# Altium footprint library Ecohydro.PcbLib: 21 footprints (part 1 of 2)
Each footprint in its own frame and in the unit in brackets; x right, y up, seen from the top. Pads: shape width x height; smd on the part's side, far side on the other; paste and mask are expansions set on the pad; w line width, h text height; cw(c..) or ccw(c..) is an arc to the next point about the centre after c.
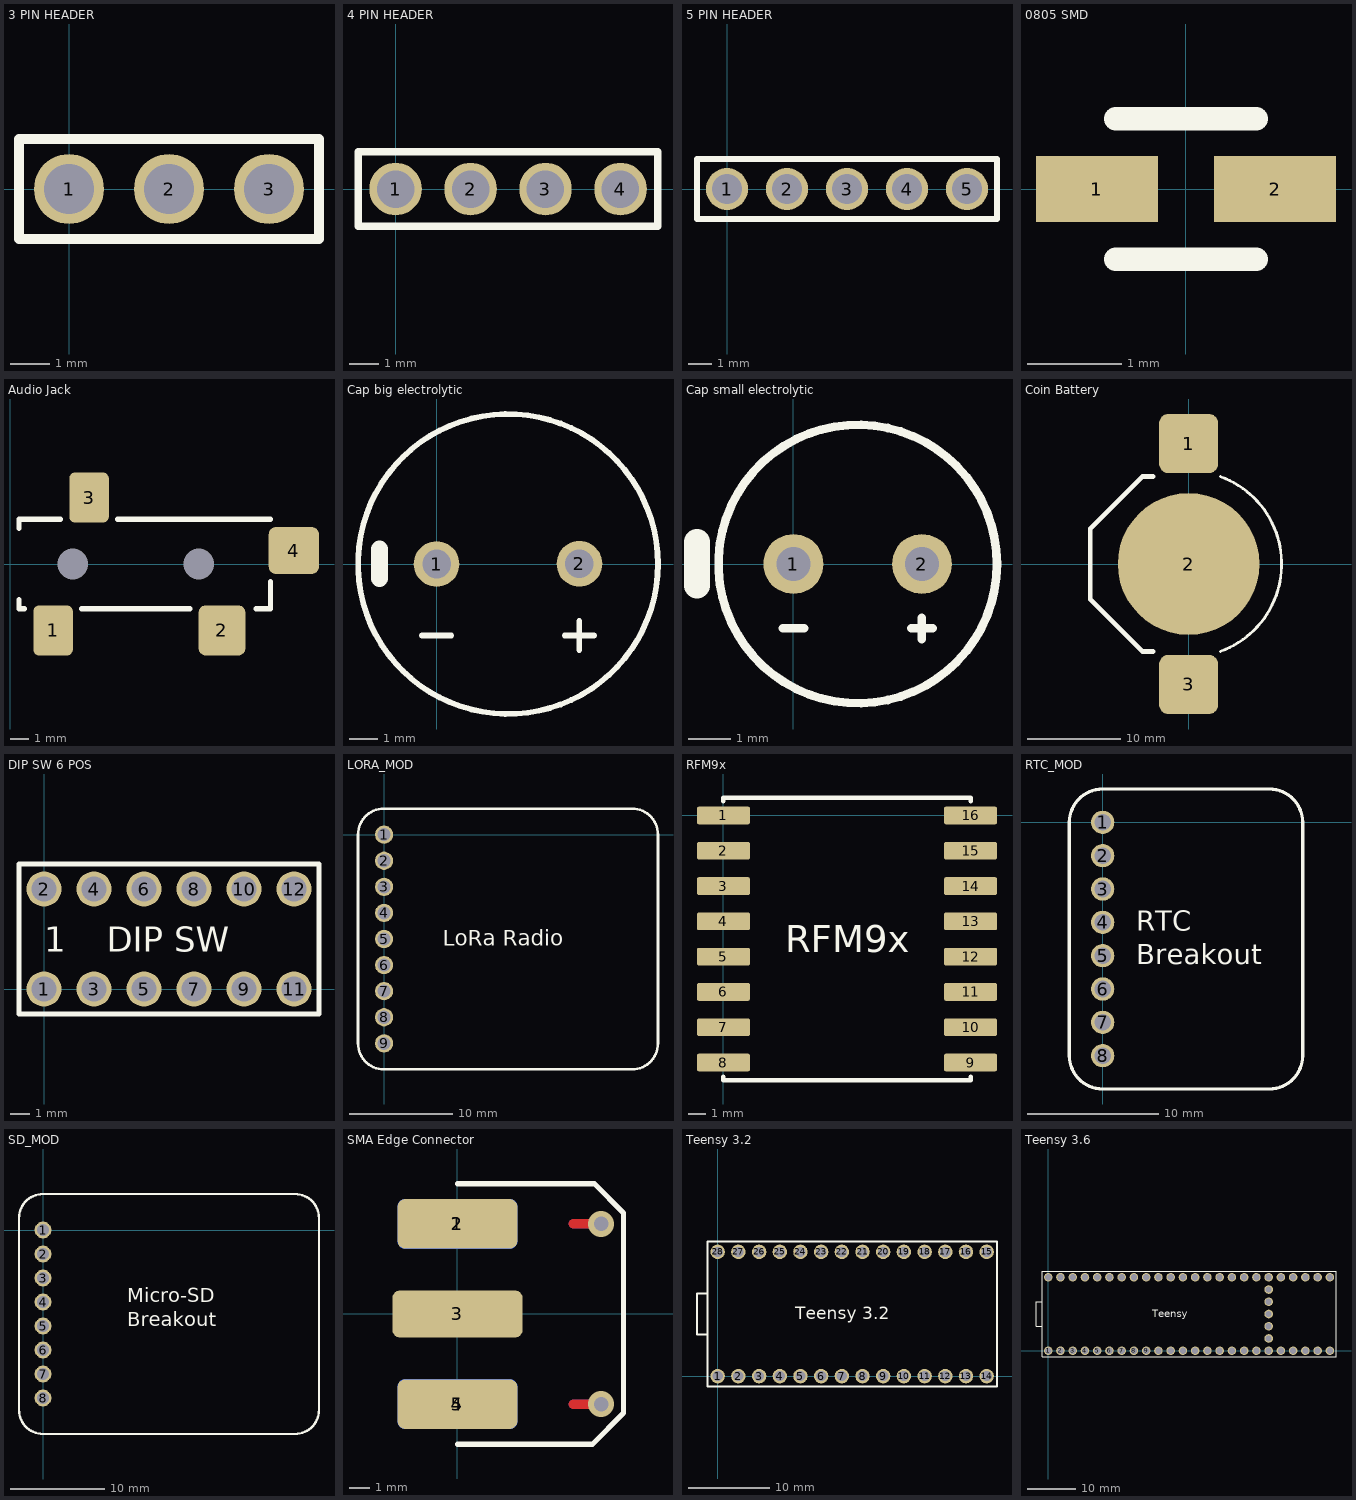
[diagram p0: the footprints below, top view; thin cyan lines are the x and y axes]

## 3 PIN HEADER [mil]
height 39.37
pads (3):
  round 70 hole 50: 1(0,0) 2(100,0) 3(200,0)
Top Overlay:
  lines w10: -50,-50 250,-50 250,50 -50,50 -50,-50

## 4 PIN HEADER [mil]
height 393.7
pads (4):
  round 70 hole 50: 1(0,0) 2(100,0) 3(200,0) 4(300,0)
Top Overlay:
  lines w10: -50,-50 -50,50 350,50 350,-50 -50,-50

## 5 PIN HEADER [mil]
height 393.7
pads (5):
  round 70 hole 50: 1(0,0) 2(100,0) 3(200,0) 4(300,0) 5(400,0)
Top Overlay:
  lines w10: -50,-50 -50,50 450,50 450,-50 -50,-50

## 0805 SMD [mm]
pads (2):
  rect 1.3x0.7 smd: 1(-0.95,0) 2(0.95,0)
Top Overlay:
  lines w0.254: -0.75,-0.75 0.75,-0.75 ; -0.75,0.75 0.75,0.75

## Audio Jack [mm]
height 5.08
pads (6):
  rrect30% 2.2x2.8 smd: 1(2.4,-3.7) 3(4.4,3.7)
  rrect30% 2.6x2.8 smd: 2(11.8,-3.7)
  rrect30% 2.8x2.6 smd: 4(15.8,0.75)
  round 1 hole 1.7 unplated: ""(3.5,0) ""(10.5,0)
Top Overlay:
  lines w0.305: 0.5,-2 0.5,-2.5 0.8,-2.5 ; 0.5,2 0.5,2.5 2.8,2.5 ; 4,-2.5 10,-2.5 ; 6,2.5 14.5,2.5 ; 13.7,-2.5 14.5,-2.5 14.5,-1

## Cap big electrolytic [mm]
height 20
pads (2):
  round 1.6 hole 1: 1(0,0) 2(5,0.008)
Top Overlay:
  circle w0.2: c2.5,0 r5.25
  lines w0.2: -0.512,-2.5 0.512,-2.5 ; 4.489,-2.5 5.512,-2.5 ; 4.997,-3.008 4.997,-1.992
  lines w0.6: -2,-0.5 -2,0.516

## Cap small electrolytic [mm]
height 16
pads (2):
  round 1.4 hole 0.8: 1(0,0) 2(3,0)
Top Overlay:
  circle w0.2: c1.5,0 r3.25
  lines w0.2: -0.25,-1.5 0.25,-1.5 ; 2.75,-1.5 2.989,-1.5 3.25,-1.5 ; 2.996,-1.75 2.996,-1.25
  lines w0.6: -2.25,-0.5 -2.25,0.516

## Coin Battery [mil] "Battery Retainer Coin, 20.0mm 1 Cell SMD (SMT) Tab"
height 10
pads (3):
  rrect30% 250x250 smd: 1(0,510) 3(0,-510)
  round 600 smd: 2(0,0)
Top Overlay:
  lines w12: 134.65,-369.96 ccw(c0,0) 134.65,369.96
  lines w20: -150,-369.96 -196.04,-369.96 -416,-150 ; -150,369.96 -196.04,369.96 -416,150 ; -416,-150 -416,0 -416,150 ; -416,-150 -416,150

## DIP SW 6 POS [mil] "6 position dip switch"
height 393.7
pads (12):
  round 70 hole 50: 1(0,0) 2(0,200) 3(100,0) 4(100,200) 5(200,0) 6(200,200) 7(300,0) 8(300,200) 9(400,0) 10(400,200) 11(500,0) 12(500,200)
Top Overlay:
  lines w10: -50,-50 550,-50 550,250 -50,250 -50,-50
  text "1" at 0,75 h50
  text "DIP SW" at 125,75 h50

## LORA_MOD [mil]
height 393.7
pads (9):
  round 70 hole 50: 1(0,0) 2(0,-100) 3(0,-200) 4(0,-300) 5(0,-400) 6(0,-500) 7(0,-600) 8(0,-700) 9(0,-800)
Top Overlay:
  lines w10: -100,-800 ccw(c0,-800) 0,-900 950,-900 ccw(c950,-800) 1050,-800 1050,0 ccw(c950,0) 950,100 0,100 ccw(c0,0) -100,0 -100,-800
  text "LoRa Radio" at 225,-425 h60

## RFM9x [mm]
height 0.254
pads (16):
  rrect20% 3x1 smd: 1(0,0) 2(0,-2) 3(0,-4) 4(0,-6) 5(0,-8) 6(0,-10) 7(0,-12) 8(0,-14) 9(14,-14) 10(14,-12) 11(14,-10) 12(14,-8) 13(14,-6) 14(14,-4) 15(14,-2) 16(14,0)
Top Overlay:
  lines w0.254: 0,-14.8 0,-15 14,-15 14,-14.8 ; 0,0.8 0,1 14,1 14,0.8
  text "RFM9x" at 3.5,-7.75 h1.52

## RTC_MOD [mil]
height 393.7
pads (8):
  round 70 hole 50: 1(0,0) 2(0,-100) 3(0,-200) 4(0,-300) 5(0,-400) 6(0,-500) 7(0,-600) 8(0,-700)
Top Overlay:
  lines w10: -100,-700 ccw(c0,-700) 0,-800 500,-800 ccw(c500,-700) 600,-700 600,0 ccw(c500,0) 500,100 0,100 ccw(c0,0) -100,0 -100,-700
  text "RTC" at 100,-325 h60
  text "Breakout" at 100,-425 h60

## SD_MOD [mil]
height 393.7
pads (8):
  round 70 hole 50: 1(0,0) 2(0,-100) 3(0,-200) 4(0,-300) 5(0,-400) 6(0,-500) 7(0,-600) 8(0,-700)
Top Overlay:
  lines w10: -100,-750 ccw(c0,-750) 0,-850 1050,-850 ccw(c1050,-750) 1150,-750 1150,50 ccw(c1050,50) 1050,150 0,150 ccw(c0,50) -100,50 -100,-750
  text "Micro-SD" at 350,-300 h60
  text "Breakout" at 350,-400 h60

## SMA Edge Connector [mil] "Antenna Edge Connector"
height 10
pads (5):
  rrect30% 230x95 smd far side: 1(0,173) 5(0,-173)
  rrect30% 230x95 smd: 2(0,173) 4(0,-173)
  rrect30% 250x90 smd: 3(0,0)
via 276,-173 diameter 50 hole 28
via 276,173 diameter 50 hole 28
Top Layer:
  lines w18: 222,-173 276,-173 ; 222,173 276,173
Bottom Layer:
  lines w18: 222,-173 276,-173 ; 222,173 276,173
Top Overlay:
  lines w10: 0,-250 259,-250 319,-190 319,194 263,250 0,250

## Teensy 3.2 [mil]
height 393.7
pads (28):
  round 70 hole 50: 1(0,0) 2(100,0) 3(200,0) 4(300,0) 5(400,0) 6(500,0) 7(600,0) 8(700,0) 9(800,0) 10(900,0) 11(1000,0) 12(1100,0) 13(1200,0) 14(1300,0) 15(1300,600) 16(1200,600) 17(1100,600) 18(1000,600) 19(900,600) 20(800,600) 21(700,600) 22(600,600) 23(500,600) 24(400,600) 25(300,600) 26(200,600) 27(100,600) 28(0,600)
Top Overlay:
  lines w10: -50,200 -100,200 -100,400 -50,400 ; -50,-50 -50,50 -50,650 1350,650 1350,-50 -50,-50
  text "Teensy 3.2" at 375,275 h60

## Teensy 3.6 [mil]
height 393.7
pads (53):
  round 70 hole 50: 1(0,0) 2(100,0) 3(200,0) 4(300,0) 5(400,0) 6(500,0) 7(600,0) 8(700,0) 9(800,0) 10(900,0) 11(1000,0) 12(1100,0) 13(1200,0) 14(1300,0) 15(1400,0) 16(1500,0) 17(1600,0) 18(1700,0) 19(1800,0) 20(1900,0) 21(2000,0) 22(2100,0) 23(2200,0) 24(2300,0) 25(2300,600) 26(2200,600) 27(2100,600) 28(2000,600) 29(1900,600) 30(1800,600) 31(1700,600) 32(1600,600) 33(1500,600) 34(1400,600) 35(1300,600) 36(1200,600) 37(1100,600) 38(1000,600) 39(900,600) 40(800,600) 41(700,600) 42(600,600) 43(500,600) 44(400,600) 45(300,600) 46(200,600) 47(100,600) 48(0,600) 49(1800,100) 50(1800,200) 51(1800,300) 52(1800,400) 53(1800,500)
Top Overlay:
  lines w10: -50,200 -100,200 -100,400 -50,400 ; -50,-50 2350,-50 2350,650 -50,650 -50,50 -50,-50
  text "Teensy" at 850,275 h60